# Altium footprint library SMAF.PcbLib: 1 footprints
Each footprint in its own frame and in the unit in brackets; x right, y up, seen from the top. Pads: shape width x height; smd on the part's side, far side on the other; paste and mask are expansions set on the pad; w line width, h text height; cw(c..) or ccw(c..) is an arc to the next point about the centre after c.
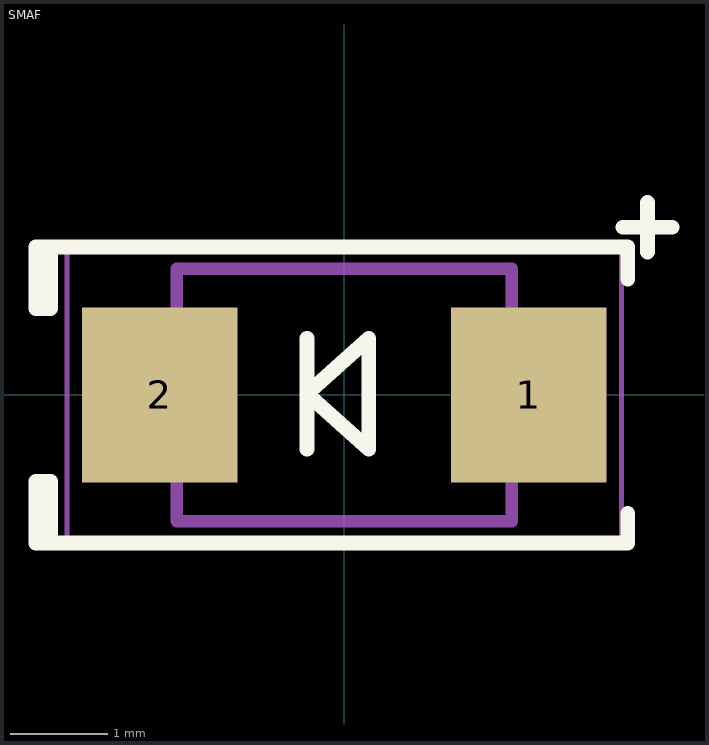
[diagram p0: the footprint, top view; thin cyan lines are the x and y axes]

## SMAF [mm]
pads (2):
  rect 1.6x1.8 smd: 1(1.9,0) 2(-1.9,0)
Top Overlay:
  lines w0.152: -0.381,-0.559 -0.381,0.584 ; 2.87,1.727 3.378,1.727 ; 2.921,-1.219 2.921,-1.524 -3.175,-1.524 ; 2.921,1.194 2.921,1.524 -3.175,1.524 ; 3.124,1.473 3.124,1.981 ; -3.175,-1.524 -3.023,-1.524 -3.023,-0.889 -3.175,-0.889 -3.175,-1.524 ; -3.175,1.524 -3.023,1.524 -3.023,0.889 -3.175,0.889 -3.175,1.524 ; -0.381,0.013 0.254,-0.559 0.254,0.584 -0.381,0.013
Mechanical 13:
  lines w0.127: -1.725,-1.3 1.725,-1.3 1.725,1.3 -1.725,1.3 -1.725,-1.3
Mechanical 15:
  lines w0.05: -2.855,-1.55 2.855,-1.55 2.855,1.55 -2.855,1.55 -2.855,-1.55
3D body "SMAF1.STEP": height 1.2, standoff -0.01, extent -2.45,-1.316 2.45,1.316